# Altium footprint library Inverter_Libraries.PcbLib: 11 footprints
Each footprint in its own frame and in the unit in brackets; x right, y up, seen from the top. Pads: shape width x height; smd on the part's side, far side on the other; paste and mask are expansions set on the pad; w line width, h text height; cw(c..) or ccw(c..) is an arc to the next point about the centre after c.
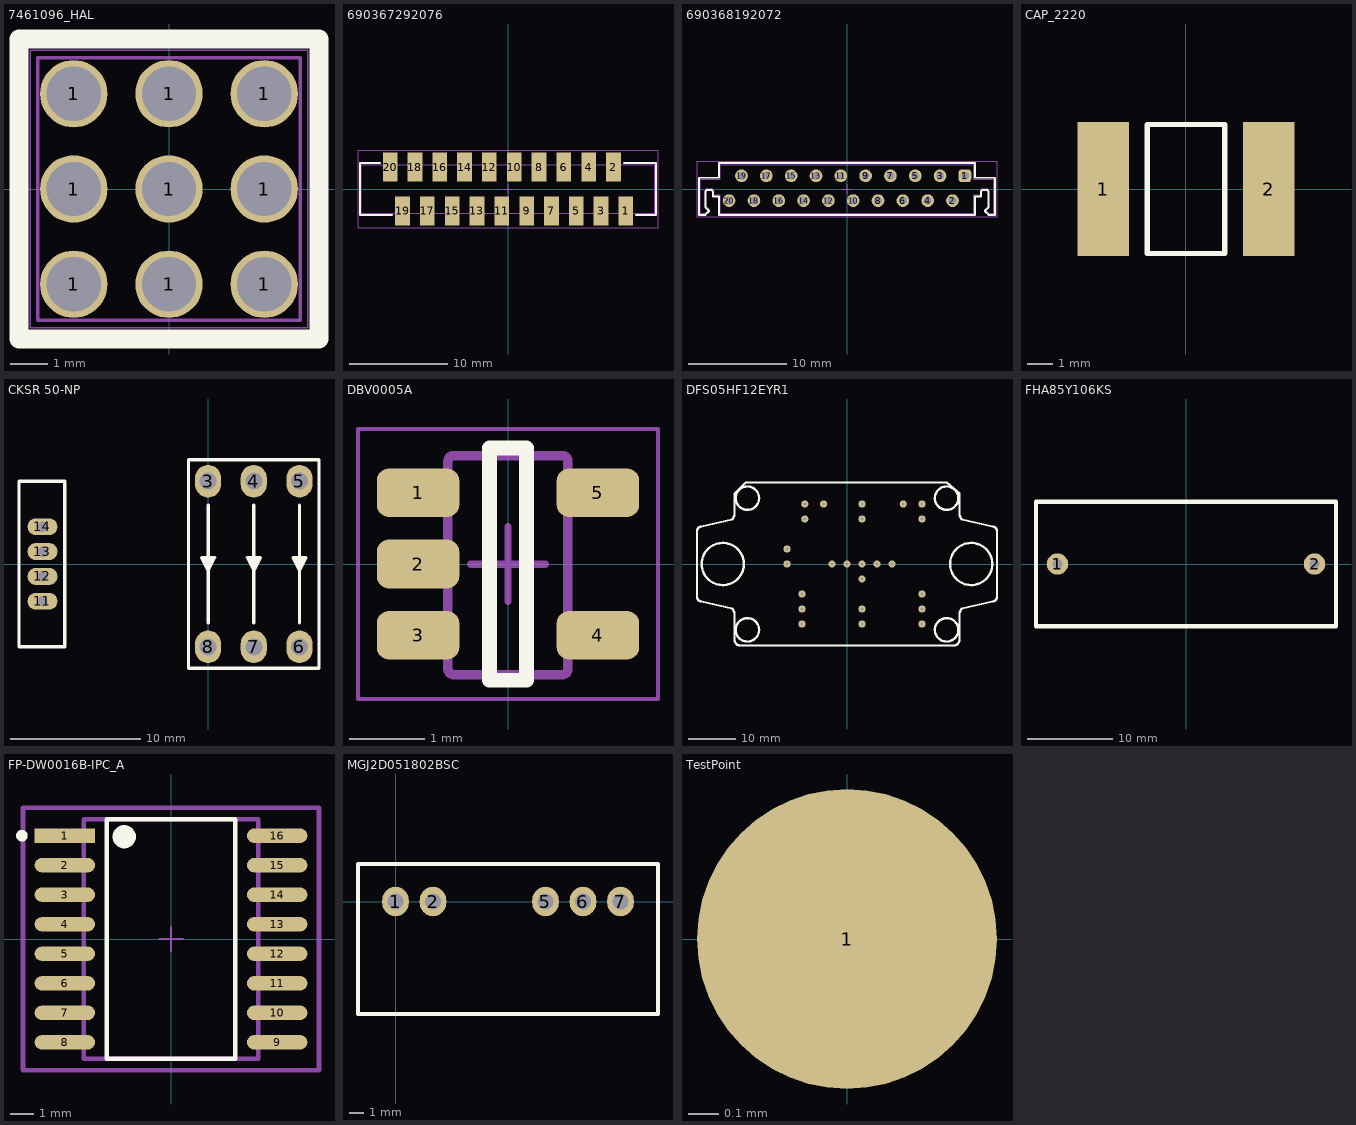
[diagram p0: the footprints below, top view; thin cyan lines are the x and y axes]

## 7461096_HAL [mm] "M4, thread 6mm"
height 9
pads (9):
  round 1.8 hole 1.45: 1(-2.54,-2.54) 1(-2.54,0) 1(-2.54,2.54) 1(0,-2.54) 1(0,0) 1(0,2.54) 1(2.54,-2.54) 1(2.54,0) 1(2.54,2.54)
Top Overlay:
  lines w0.5: -4,-4 4,-4 4,4 -4,4 -4,-4
Top Designator:
  text ".Designator" at -7.498,-0.5 h1.5
Top Component Outline:
  lines w0.1: -3.5,-3.5 -3.5,3.5 3.5,3.5 3.5,-3.5 -3.5,-3.5
Top 3D Body:
  lines w0.1: -3.5,-3.5 -3.5,3.5 3.5,3.5 3.5,-3.5 -3.5,-3.5
Top Courtyard:
  lines w0.05: -0.5,0 0.5,0 ; 0,-0.5 0,0.5 ; -3.7,-3.7 -3.7,3.7 3.7,3.7 3.7,-3.7 -3.7,-3.7
3D body "7461096.stp": height 9, standoff -3.5, extent -3.5,-3.5 3.5,3.5

## 690367292076 [mm] "MiniModule Connectors, PCB Type, Female, SMT, Vertical, 20p"
height 5.45
pads (20):
  rect 1.5x3 smd: 1(12.065,-2.25) 2(10.795,2.25) 3(9.525,-2.25) 4(8.255,2.25) 5(6.985,-2.25) 6(5.715,2.25) 7(4.445,-2.25) 8(3.175,2.25) 9(1.905,-2.25) 10(0.635,2.25) 11(-0.635,-2.25) 12(-1.905,2.25) 13(-3.175,-2.25) 14(-4.445,2.25) 15(-5.715,-2.25) 16(-6.985,2.25) 17(-8.255,-2.25) 18(-9.525,2.25) 19(-10.795,-2.25) 20(-12.065,2.25)
Top Overlay:
  lines w0.2: -13.11,2.65 -15.15,2.65 -15.15,-2.65 -11.86,-2.65 ; 11.86,2.65 15.15,2.65 15.15,-2.65 13.11,-2.65
Top Designator:
  text ".Designator" at -7.498,-0.5 h1.5
Top Component Outline:
  lines w0.1: -12.19,2.5 -12.19,3.5 -11.94,3.5 -11.94,2.5 ; -10.92,-2.5 -10.92,-3.5 -10.67,-3.5 -10.67,-2.5 ; -9.65,2.5 -9.65,3.5 -9.4,3.5 -9.4,2.5 ; -8.38,-2.5 -8.38,-3.5 -8.13,-3.5 -8.13,-2.5 ; -7.11,2.5 -7.11,3.5 -6.86,3.5 -6.86,2.5 ; -5.84,-2.5 -5.84,-3.5 -5.59,-3.5 -5.59,-2.5 ; -4.57,2.5 -4.57,3.5 -4.32,3.5 -4.32,2.5 ; -3.3,-2.5 -3.3,-3.5 -3.05,-3.5 -3.05,-2.5 ; -2.03,2.5 -2.03,3.5 -1.78,3.5 -1.78,2.5 ; -0.76,-2.5 -0.76,-3.5 -0.51,-3.5 -0.51,-2.5 ; 0.51,2.5 0.51,3.5 0.76,3.5 0.76,2.5 ; 1.78,-2.5 1.78,-3.5 2.03,-3.5 2.03,-2.5 ; 3.05,2.5 3.05,3.5 3.3,3.5 3.3,2.5 ; 4.32,-2.5 4.32,-3.5 4.57,-3.5 4.57,-2.5 ; 5.59,2.5 5.59,3.5 5.84,3.5 5.84,2.5 ; 6.86,-2.5 6.86,-3.5 7.11,-3.5 7.11,-2.5 ; 8.13,2.5 8.13,3.5 8.38,3.5 8.38,2.5 ; 9.4,-2.5 9.4,-3.5 9.65,-3.5 9.65,-2.5 ; 10.67,2.5 10.67,3.5 10.92,3.5 10.92,2.5 ; 11.94,-2.5 11.94,-3.5 12.19,-3.5 12.19,-2.5 ; -15,-2.5 -15,2.5 15,2.5 15,-2.5 -15,-2.5
Top 3D Body:
  lines w0.1: -12.19,2.5 -12.19,3.5 -11.94,3.5 -11.94,2.5 ; -10.92,-2.5 -10.92,-3.5 -10.67,-3.5 -10.67,-2.5 ; -9.65,2.5 -9.65,3.5 -9.4,3.5 -9.4,2.5 ; -8.38,-2.5 -8.38,-3.5 -8.13,-3.5 -8.13,-2.5 ; -7.11,2.5 -7.11,3.5 -6.86,3.5 -6.86,2.5 ; -5.84,-2.5 -5.84,-3.5 -5.59,-3.5 -5.59,-2.5 ; -4.57,2.5 -4.57,3.5 -4.32,3.5 -4.32,2.5 ; -3.3,-2.5 -3.3,-3.5 -3.05,-3.5 -3.05,-2.5 ; -2.03,2.5 -2.03,3.5 -1.78,3.5 -1.78,2.5 ; -0.76,-2.5 -0.76,-3.5 -0.51,-3.5 -0.51,-2.5 ; 0.51,2.5 0.51,3.5 0.76,3.5 0.76,2.5 ; 1.78,-2.5 1.78,-3.5 2.03,-3.5 2.03,-2.5 ; 3.05,2.5 3.05,3.5 3.3,3.5 3.3,2.5 ; 4.32,-2.5 4.32,-3.5 4.57,-3.5 4.57,-2.5 ; 5.59,2.5 5.59,3.5 5.84,3.5 5.84,2.5 ; 6.86,-2.5 6.86,-3.5 7.11,-3.5 7.11,-2.5 ; 8.13,2.5 8.13,3.5 8.38,3.5 8.38,2.5 ; 9.4,-2.5 9.4,-3.5 9.65,-3.5 9.65,-2.5 ; 10.67,2.5 10.67,3.5 10.92,3.5 10.92,2.5 ; 11.94,-2.5 11.94,-3.5 12.19,-3.5 12.19,-2.5 ; -15,-2.5 15,-2.5 15,2.5 -15,2.5 -15,-2.5
Top Courtyard:
  lines w0.05: -0.5,0 0.5,0 ; 0,-0.5 0,0.5 ; -15.35,-3.95 -15.35,3.95 15.35,3.95 15.35,-3.95 -15.35,-3.95
3D body "690367292076.stp": height 5.75, standoff 0, extent -14.995,-3.499 14.995,3.498

## 690368192072 [mm] "MiniModule Connectors, PCB Type, Female, THT, Angled, 20p"
height 6
pads (20):
  rrect50% 1.3x1.3 hole 0.8: 1(12.065,1.35)
  round 1.3 hole 0.8: 2(10.795,-1.19) 3(9.525,1.35) 4(8.255,-1.19) 5(6.985,1.35) 6(5.715,-1.19) 7(4.445,1.35) 8(3.175,-1.19) 9(1.905,1.35) 10(0.635,-1.19) 11(-0.635,1.35) 12(-1.905,-1.19) 13(-3.175,1.35) 14(-4.445,-1.19) 15(-5.715,1.35) 16(-6.985,-1.19) 17(-8.255,1.35) 18(-9.525,-1.19) 19(-10.795,1.35) 20(-12.065,-1.19)
Top Overlay:
  lines w0.2: -15.15,-2.65 -14.5,-2.65 -14.1,-2.25 -14.5,-1.85 -14.5,-0.3 cw(c-14.2,-0.4) -14.3,-0.1 -13.9,-0.1 cw(c-14,-0.4) -13.7,-0.3 -13.7,-0.75 -13.11,-0.75 -13.11,-2.65 13.11,-2.65 13.11,-0.75 13.7,-0.75 13.7,-0.3 cw(c14,-0.4) 13.9,-0.1 14.3,-0.1 cw(c14.2,-0.4) 14.5,-0.3 14.5,-1.85 14.1,-2.25 14.5,-2.65 15.15,-2.65 15.15,1.15 13.11,1.15 13.11,2.65 -13.11,2.65 -13.11,1.15 -15.15,1.15 -15.15,-2.65
Top Designator:
  text ".Designator" at -7.498,-0.5 h1.5
Top Component Outline:
  lines w0.1: -15,-2.5 -14.5,-2.5 -14.1,-2.1 -14.5,-1.7 -14.5,-0.15 cw(c-14.2,-0.25) -14.3,0.05 -13.9,0.05 cw(c-14,-0.25) -13.7,-0.15 -13.7,-0.6 -12.96,-0.6 -12.96,-2.5 12.96,-2.5 12.96,-0.6 13.7,-0.6 13.7,-0.15 cw(c14,-0.25) 13.9,0.05 14.3,0.05 cw(c14.2,-0.25) 14.5,-0.15 14.5,-1.7 14.1,-2.1 14.5,-2.5 15,-2.5 15,1 12.96,1 12.96,2.5 -12.96,2.5 -12.96,1 -15,1 -15,-2.5
Top 3D Body:
  lines w0.1: -15,-2.5 -15,1 -12.96,1 -12.96,2.5 12.96,2.5 12.96,1 15,1 15,-2.5 14.5,-2.5 14.1,-2.1 14.5,-1.7 14.5,-0.15 ccw(c14.2,-0.25) 14.3,0.05 13.9,0.05 ccw(c14,-0.25) 13.7,-0.15 13.7,-0.6 12.96,-0.6 12.96,-2.5 -12.96,-2.5 -12.96,-0.6 -13.7,-0.6 -13.7,-0.15 ccw(c-14,-0.25) -13.9,0.05 -14.3,0.05 ccw(c-14.2,-0.25) -14.5,-0.15 -14.5,-1.7 -14.1,-2.1 -14.5,-2.5 -15,-2.5
Top Courtyard:
  lines w0.05: -0.5,0 0.5,0 ; 0,-0.5 0,0.5 ; -15.35,-2.85 -15.35,2.85 15.35,2.85 15.35,-2.85 -15.35,-2.85
3D body "690368192072.stp": height 5.85, standoff -3.05, extent -15,-2.5 15,2.5

## CAP_2220 [mm]
pads (2):
  rect 2x5.2 smd: 1(-3.2,0) 2(3.2,0)
Top Overlay:
  lines w0.2: -1.5,-2.5 -1.5,0 -1.5,2.5 1.5,2.5 1.5,-2.5 -1.5,-2.5
3D body "CAP 2220 PPS H3,5mm.stp": height 3.5, standoff 0, extent -2.85,-2.55 2.85,2.55

## CKSR 50-NP [mm]
pads (10):
  oval 2x2.5 hole 1.3: 3(0,6.35) 4(3.5,6.35) 5(7,6.35) 6(7,-6.35) 7(3.5,-6.35) 8(0,-6.35)
  oval 2.3x1.3 hole 0.8: 11(-12.7,-2.857) 12(-12.7,-0.952) 13(-12.7,0.953) 14(-12.7,2.857)
Top Overlay:
  lines w0.25: -0.3,0.4 0.3,0.4 ; -0.25,0 0.2,0 0.2,0.2 -0.2,0.2 ; 0,-4.5 0,4.5 ; 3.2,0.4 3.8,0.4 ; 3.25,0 3.7,0 3.7,0.2 3.3,0.2 ; 3.5,-4.5 3.5,4.5 ; 6.7,0.4 7.3,0.4 ; 6.75,0 7.2,0 7.2,0.2 6.8,0.2 ; 7,-4.5 7,4.5 ; -14.5,-6.35 -11,-6.35 -11,6.35 -14.5,6.35 -14.5,-6.35 ; -1.5,-8 -1.5,8 8.5,8 8.5,-8 -1.5,-8 ; -0.5,0.5 0.5,0.5 0,-0.5 -0.5,0.5 ; 3,0.5 4,0.5 3.5,-0.5 3,0.5 ; 6.5,0.5 7.5,0.5 7,-0.5 6.5,0.5
3D body: height 16, standoff 0.2, extent -15,-6.5 9.5,6.5

## DBV0005A [mm]
pads (5):
  rrect50% 1.1x0.65 smd paste-0.102 mask+0.051: 1(-1.2,0.95) 2(-1.2,0) 3(-1.2,-0.95) 4(1.2,-0.95) 5(1.2,0.95)
Top Overlay:
  lines w0.2: -0.25,-1.55 -0.25,1.55 0.25,1.55 0.25,-1.55 -0.25,-1.55
Top 3D Body:
  lines w0.127: -0.801,1.371 cw(c-0.725,1.37) -0.725,1.446 ; -0.801,1.37 -0.801,1.371 ; -0.801,1.37 -0.801,-1.399 -0.801,-1.4 ccw(c-0.725,-1.399) -0.725,-1.475 ; -0.725,-1.475 0.723,-1.475 0.724,-1.475 ccw(c0.723,-1.399) 0.799,-1.4 0.799,-1.399 0.799,1.37 ; -0.725,-1.475 -0.725,-1.475 ; -0.725,1.446 -0.725,1.446 ; -0.725,1.446 0.723,1.446 0.724,1.446 cw(c0.723,1.37) 0.799,1.371 ; 0.799,1.37 0.799,1.371 ; -1.423,-1.167 -1.423,-0.767 -1.199,-0.767 -1.105,-0.767 -1.088,-0.767 -0.835,-0.767 -0.801,-0.767 -0.801,-1.167 -0.835,-1.167 -1.088,-1.167 -1.105,-1.167 -1.199,-1.167 -1.423,-1.167 ; -1.423,-0.215 -1.423,0.186 -1.199,0.186 -1.105,0.186 -1.088,0.186 -0.835,0.186 -0.801,0.186 -0.801,-0.215 -0.835,-0.215 -1.088,-0.215 -1.105,-0.215 -1.199,-0.215 -1.423,-0.215 ; -1.423,0.738 -1.423,1.138 -1.199,1.138 -1.105,1.138 -1.088,1.138 -0.835,1.138 -0.801,1.138 -0.801,0.738 -0.835,0.738 -1.088,0.738 -1.105,0.738 -1.199,0.738 -1.423,0.738 ; 0.799,-1.167 0.834,-1.167 1.087,-1.167 1.103,-1.167 1.198,-1.167 1.422,-1.167 1.422,-0.767 1.198,-0.767 1.103,-0.767 1.087,-0.767 0.834,-0.767 0.799,-0.767 0.799,-1.167 ; 0.799,0.738 0.834,0.738 1.087,0.738 1.103,0.738 1.198,0.738 1.422,0.738 1.422,1.138 1.198,1.138 1.103,1.138 1.087,1.138 0.834,1.138 0.799,1.138 0.799,0.738
Top Courtyard:
  lines w0.05: -2,-1.8 2,-1.8 2,1.8 -2,1.8 -2,-1.8
  lines w0.1: -0.5,0 0.5,0 ; 0,-0.5 0,0.5
3D body "DBV0005A.stp": height 1.2, standoff 0, extent -1.4,-1.45 1.4,1.45

## DFS05HF12EYR1 [mm] "1200V/5.5mO Half Bridge SiC MOSFET Module"
pads (24):
  round 1.524 hole 0.7: 1(-9,9.6) 1(-9,12.8) 1(-5,12.8) 1(12,12.8) 1(16,9.6) 1(16,12.8) 2(3.2,12.8) 3(3.2,9.6) 4(-9.6,-12.8) 4(-9.6,-9.6) 4(-9.6,-6.4) 4(16,-12.8) 4(16,-9.6) 4(16,-6.4) 6(3.2,-9.6) 7(3.2,-12.8) 8(-12.8,0) 9(-12.8,3.2)
  round 1.5 hole 0.7: 5(-3.2,0) 5(0,0) 5(3.2,-3.2) 5(3.2,0) 5(6.4,0) 5(9.6,0)
Top Overlay:
  circle w0.5: c26.5,0 r4.5
  circle w0.5: c-26.5,0 r4.5
  circle w0.5: c-21.25,-14.05 r2.5
  circle w0.5: c21.25,-14.05 r2.5
  circle w0.5: c-21.25,14.05 r2.5
  circle w0.5: c21.25,14.05 r2.5
  lines w0.5: -24.015,10.619 -24.015,14.912 ; -24,10.707 cw(c-25.707,10.707) -24.5,9.5 -31,8 ccw(c-31,7) -32,7 -32,0 -32,-7 ccw(c-31,-7) -31,-8 -24.5,-9.5 cw(c-25.707,-10.707) -24,-10.707 -24,-16.13 ccw(c-22.73,-16.13) -22.73,-17.4 -21.25,-17.4 0,-17.4 21.25,-17.4 22.73,-17.4 ccw(c22.73,-16.13) 24,-16.13 24,-10.707 cw(c25.707,-10.707) 24.5,-9.5 31,-8 ccw(c31,-7) 32,-7 32,0 32,7 ccw(c31,7) 31,8 24.5,9.5 cw(c25.707,10.707) 24,10.707 24,15 21.3,17.4 ; -24,15 -21.6,17.4 -21.25,17.4 21.25,17.4
3D body: height 12, standoff 0.2, extent -24,-17.5 24,17.5

## FHA85Y106KS [mm] "850V 10uF High Temperature Film Capacitor for Automotive Application"
pads (2):
  round 2.5 hole 1.2: 1(-15,0) 2(15,0)
Top Overlay:
  lines w0.5: -17.5,-7.25 17.5,-7.25 17.5,7.25 -17.5,7.25 -17.5,-7.25
3D body "fha50y106ks.STEP": height 37, standoff -19.5, extent -16.5,-7.25 16.5,7.25

## FP-DW0016B-IPC_A [mm]
pads (16):
  rect 2.603x0.622 smd paste+0 mask+0: 1(-4.565,4.445)
  rrect100% 2.603x0.622 smd paste+0 mask+0: 2(-4.565,3.175) 3(-4.565,1.905) 4(-4.565,0.635) 5(-4.565,-0.635) 6(-4.565,-1.905) 7(-4.565,-3.175) 8(-4.565,-4.445) 9(4.565,-4.445) 10(4.565,-3.175) 11(4.565,-1.905) 12(4.565,-0.635) 13(4.565,0.635) 14(4.565,1.905) 15(4.565,3.175) 16(4.565,4.445)
Top Overlay:
  circle w0.5: c-2.014,4.4 r0.25
  circle w0.25: c-6.417,4.445 r0.125
  lines w0.2: -2.764,-5.15 2.764,-5.15 2.764,5.15 -2.764,5.15 -2.764,-5.15
Top Component Center:
  lines w0.1: -0.5,0 0.5,0 ; 0,-0.5 0,0.5
Top Assembly:
  lines w0.2: -6.367,-5.65 6.367,-5.65 6.367,5.65 -6.367,5.65 -6.367,-5.65
  text ".Designator" at 0,0.188 h1
Top 3D Body:
  lines w0.2: -3.75,-5.15 3.75,-5.15 3.75,5.15 -3.75,5.15 -3.75,-5.15
Top Courtyard:
  lines w0.2: -6.367,-5.65 6.367,-5.65 6.367,5.65 -6.367,5.65 -6.367,-5.65
3D body "IC_Texas_Instruments_ISO5852SDWR_eec.STEP": height 0.25, standoff 0, extent -6.367,-5.65 6.367,5.65

## MGJ2D051802BSC [mm]
pads (5):
  oval 1.8x2 hole 1.1: 1(0,0) 2(2.54,0) 5(10.16,0) 6(12.7,0) 7(15.24,0)
Top Overlay:
  lines w0.25: -2.54,-7.62 -2.54,2.54 17.78,2.54 17.78,-7.62 -2.54,-7.62
3D body "mps_dcdc_mgj2d_sc_a.sldprt": height 12.6, standoff -4, extent -2.25,-7.5 17.25,2.32

## TestPoint [mm]
pads (1):
  round 1 smd: 1(0,0)